# EAGLE library part CONN-10P (library pinconn)
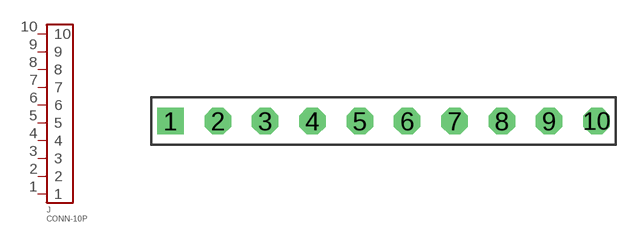
[diagram p9: symbol with the pads of CONN-10P; footprint CONN-10P]

Designator prefix J

## CONN-10P  [CONN-10P]
1  1  pas
2  2  pas
3  3  pas
4  4  pas
5  5  pas
6  6  pas
7  7  pas
8  8  pas
9  9  pas
10  10  pas

## Footprint CONN-10P (pad centres in mm)
drill 0.9 pad 1.422 square: 1 -10.16,0
drill 0.9 pad 1.422 octagon: 2 -7.62,0; 3 -5.08,0; 4 -2.54,0; 5 0,0; 6 2.54,0; 7 5.08,0; 8 7.62,0; 9 10.16,0; 10 12.7,0